# Altium footprint library WR-TBL_Rising Cage Clamp_5.00mm.PcbLib: 76 footprints (part 5 of 5)
Each footprint in its own frame and in the unit in brackets; x right, y up, seen from the top. Pads: shape width x height; smd on the part's side, far side on the other; paste and mask are expansions set on the pad; w line width, h text height; cw(c..) or ccw(c..) is an arc to the next point about the centre after c.
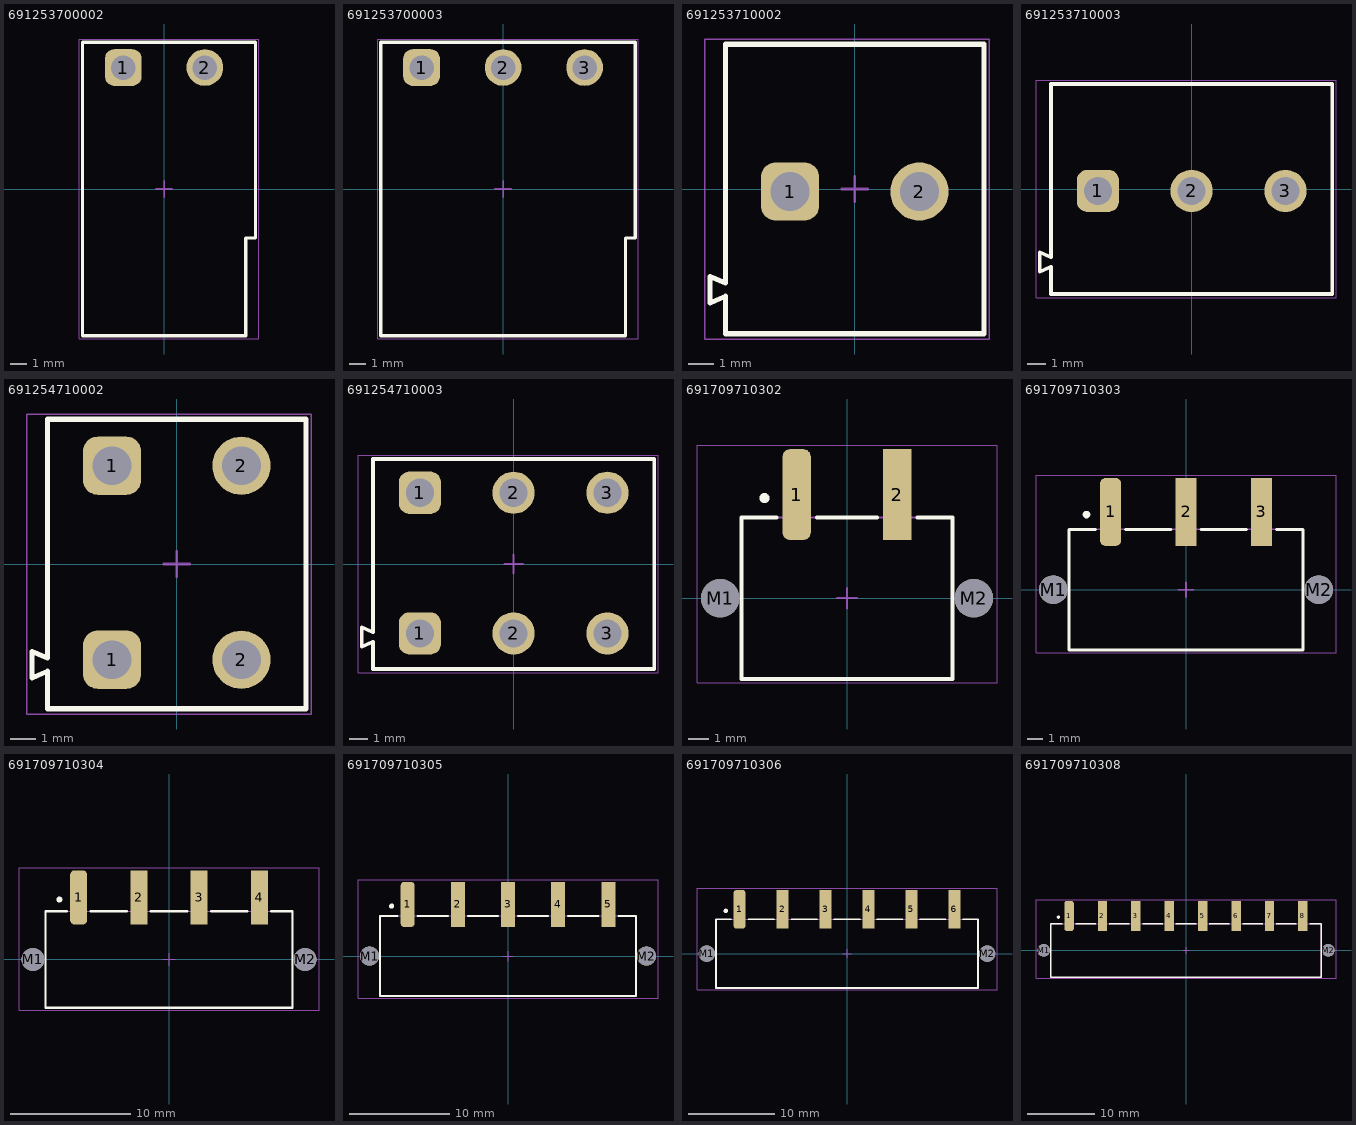
[diagram p4: the footprints below, top view; thin cyan lines are the x and y axes]

## 691253700002 [mm] "Serie 2537 - 5.00 mm _ 2 pins"
height 18
pads (2):
  rrect50% 2.25x2.25 hole 1.5: 1(-2.5,7.45)
  round 2.25 hole 1.5: 2(2.5,7.45)
Top Overlay:
  lines w0.2: -5,-9 -5,9 5.6,9 5.6,-3 5,-3 5,-9 -5,-9
Top Assembly:
  lines w0.1: -5,-9 5,-9 5,-3 5.6,-3 5.6,9 -5,9 -5,-9
Top Designator:
  text ".Designator" at -3.647,-0.357 h1
Top 3D Body:
  lines w0.1: -5,-9 -5,9 5.6,9 5.6,-3 5,-3 5,-9 -5,-9
Top Courtyard:
  lines w0.05: -5.2,-9.2 -5.2,9.2 5.8,9.2 5.8,-9.2 -5.2,-9.2
Top Component Center:
  lines w0.1: -0.5,0 0.5,0 ; 0,-0.5 0,0.5
3D body "691253700002.stp": height 11.3, standoff -3.9, extent -5,-9 5.6,9

## 691253700003 [mm] "Serie 2537 - 5.00 mm _ 3 pins"
height 18
pads (3):
  rrect50% 2.25x2.25 hole 1.5: 1(-5,7.45)
  round 2.25 hole 1.5: 2(0,7.45) 3(5,7.45)
Top Overlay:
  lines w0.2: -7.5,-9 -7.5,9 8.1,9 8.1,-3 7.5,-3 7.5,-9 -7.5,-9
Top Assembly:
  lines w0.1: -7.5,-9 7.5,-9 7.5,-3 8.1,-3 8.1,9 -7.5,9 -7.5,-9
Top Designator:
  text ".Designator" at -3.647,-0.357 h1
Top 3D Body:
  lines w0.1: -7.5,-9 -7.5,9 8.1,9 8.1,-3 7.5,-3 7.5,-9 -7.5,-9
Top Courtyard:
  lines w0.05: -7.7,-9.2 -7.7,9.2 8.3,9.2 8.3,-9.2 -7.7,-9.2
Top Component Center:
  lines w0.1: -0.5,0 0.5,0 ; 0,-0.5 0,0.5
3D body "691253700003.stp": height 11.3, standoff -3.9, extent -7.5,-9 8.1,9

## 691253710002 [mm] "Serie 2537 - 5.00 mm _ 2 pins"
height 18
pads (2):
  rrect50% 2.25x2.25 hole 1.5: 1(-2.5,-0.1)
  round 2.25 hole 1.5: 2(2.5,-0.1)
Top Overlay:
  lines w0.2: -5.6,-4.41 -5,-4.15 -5,-5.6 5,-5.6 5,5.6 -5,5.6 -5,-3.64 -5.6,-3.38 -5.6,-4.41
Top Assembly:
  lines w0.1: -5.6,-4.41 -5.6,-3.38 -5,-3.64 -5,5.6 5,5.6 5,-5.6 -5,-5.6 -5,-4.15 -5.6,-4.41
Top Designator:
  text ".Designator" at -3.647,-0.357 h1
Top 3D Body:
  lines w0.1: -5.6,-4.41 -5,-4.15 -5,-5.6 5,-5.6 5,5.6 -5,5.6 -5,-3.64 -5.6,-3.38 -5.6,-4.41
Top Courtyard:
  lines w0.05: -5.8,-5.8 -5.8,5.8 5.2,5.8 5.2,-5.8 -5.8,-5.8
Top Component Center:
  lines w0.1: -0.5,0 0.5,0 ; 0,-0.5 0,0.5
3D body "691253710002.stp": height 18.1, standoff -3.9, extent -5.6,-5.6 5,5.6

## 691253710003 [mm] "Serie 2537 - 5.00 mm _ 3 pins"
height 18
pads (3):
  rrect50% 2.25x2.25 hole 1.5: 1(-5,-0.1)
  round 2.25 hole 1.5: 2(0,-0.1) 3(5,-0.1)
Top Overlay:
  lines w0.2: -8.1,-4.41 -8.1,-3.38 -7.5,-3.64 -7.5,5.6 7.5,5.6 7.5,-5.6 -7.5,-5.6 -7.5,-4.15 -8.1,-4.41
Top Assembly:
  lines w0.1: -8.1,-4.41 -7.5,-4.15 -7.5,-5.6 7.5,-5.6 7.5,5.6 -7.5,5.6 -7.5,-3.64 -8.1,-3.38 -8.1,-4.41
Top Designator:
  text ".Designator" at -3.647,-0.357 h1
Top 3D Body:
  lines w0.1: -8.1,-4.41 -8.1,-3.38 -7.5,-3.64 -7.5,5.6 7.5,5.6 7.5,-5.6 -7.5,-5.6 -7.5,-4.15 -8.1,-4.41
Top Courtyard:
  lines w0.05: -8.3,-5.8 7.7,-5.8 7.7,5.8 -8.3,5.8 -8.3,-5.8
Top Component Center:
  lines w0.1: -0.5,0 0.5,0 ; 0,-0.5 0,0.5
3D body "691253710003.stp": height 18.1, standoff -3.9, extent -8.1,-5.6 7.5,5.6

## 691254710002 [mm] "Serie 2547-5.00mm Horizontal Cable Entry with Rising Cage Clamp, 2 pins"
height 18
pads (4):
  rrect50% 2.25x2.25 hole 1.5: 1(-2.5,-3.7) 1(-2.5,3.8)
  round 2.25 hole 1.5: 2(2.5,-3.7) 2(2.5,3.8)
Top Overlay:
  lines w0.2: -5.6,-4.41 -5.6,-3.38 -5,-3.64 -5,5.6 5,5.6 5,-5.6 -5,-5.6 -5,-4.15 -5.6,-4.41
Top Assembly:
  lines w0.1: -5.6,-4.41 -5,-4.15 -5,-5.6 5,-5.6 5,5.6 -5,5.6 -5,-3.64 -5.6,-3.38 -5.6,-4.41
Top Designator:
  text ".Designator" at -3.647,-0.357 h1
Top 3D Body:
  lines w0.1: -5.6,-4.41 -5.6,-3.38 -5,-3.64 -5,5.6 5,5.6 5,-5.6 -5,-5.6 -5,-4.15 -5.6,-4.41
Top Courtyard:
  lines w0.05: -5.8,-5.8 5.2,-5.8 5.2,5.8 -5.8,5.8 -5.8,-5.8
Top Component Center:
  lines w0.1: -0.5,0 0.5,0 ; 0,-0.5 0,0.5
3D body "691254710002.stp": height 18.05, standoff -3.45, extent -5.6,-5.6 5,5.6

## 691254710003 [mm] "Serie 2547-5.00mm Horizontal Cable Entry with Rising Cage Clamp, 3 pins"
height 18
pads (6):
  rrect50% 2.25x2.25 hole 1.5: 1(-5,-3.7) 1(-5,3.8)
  round 2.25 hole 1.5: 2(0,-3.7) 2(0,3.8) 3(5,-3.7) 3(5,3.8)
Top Overlay:
  lines w0.2: -8.1,-4.41 -8.1,-3.38 -7.5,-3.64 -7.5,5.6 7.5,5.6 7.5,-5.6 -7.5,-5.6 -7.5,-4.15 -8.1,-4.41
Top Assembly:
  lines w0.1: -8.1,-4.41 -7.5,-4.15 -7.5,-5.6 7.5,-5.6 7.5,5.6 -7.5,5.6 -7.5,-3.64 -8.1,-3.38 -8.1,-4.41
Top Designator:
  text ".Designator" at -3.647,-0.357 h1
Top 3D Body:
  lines w0.1: -8.1,-4.41 -8.1,-3.38 -7.5,-3.64 -7.5,5.6 7.5,5.6 7.5,-5.6 -7.5,-5.6 -7.5,-4.15 -8.1,-4.41
Top Courtyard:
  lines w0.05: -8.3,-5.8 7.7,-5.8 7.7,5.8 -8.3,5.8 -8.3,-5.8
Top Component Center:
  lines w0.1: -0.5,0 0.5,0 ; 0,-0.5 0,0.5
3D body "691254710003.stp": height 18.05, standoff -3.45, extent -8.1,-5.6 7.5,5.6

## 691709710302 [mm] "Horizontal Entry SMT with Pressure Clamp, pitch 5mm, 02p"
height 10.9
pads (4):
  rrect50% 1.4x4.5 smd: 1(-2.5,5.15)
  rect 1.4x4.5 smd: 2(2.5,5.15)
  round 1.9 hole 1.9 unplated: M1(-6.3,0) M2(6.3,0)
Top Overlay:
  circle w0.25: c-4.1,4.975 r0.125
  lines w0.2: -3.5,4 -5.25,4 -5.25,-4 5.25,-4 5.25,4 3.5,4 ; -1.5,4 1.5,4
Top Assembly:
  lines w0.1: -3,4 -3,7 -2,7 -2,4 ; 2,4 2,7 3,7 3,4 ; -5.25,-4 -5.25,4 5.25,4 5.25,-4 -5.25,-4
Top Designator:
  text ".Designator" at -3.647,-0.357 h1
Top 3D Body:
  lines w0.1: -3,4 -3,7 -2,7 -2,4 ; 2,4 2,7 3,7 3,4 ; -5.25,-4 5.25,-4 5.25,4 -5.25,4 -5.25,-4
Top Courtyard:
  lines w0.05: -7.45,-4.2 -7.45,7.6 7.45,7.6 7.45,-4.2 -7.45,-4.2
Top Component Center:
  lines w0.1: -0.5,0 0.5,0 ; 0,-0.5 0,0.5
3D body "691709710302.stp": height 9.95, standoff -1.75, extent -7,-4 7,7

## 691709710303 [mm] "Horizontal Entry SMT with Pressure Clamp, pitch 5mm, 03p"
height 10.9
pads (5):
  rrect50% 1.4x4.5 smd: 1(-5,5.15)
  rect 1.4x4.5 smd: 2(0,5.15) 3(5,5.15)
  round 1.9 hole 1.9 unplated: M1(-8.8,0) M2(8.8,0)
Top Overlay:
  circle w0.25: c-6.6,4.975 r0.125
  lines w0.2: -6,4 -7.75,4 -7.75,-4 7.75,-4 7.75,4 6,4 ; -4,4 -1,4 ; 1,4 4,4
Top Assembly:
  lines w0.1: -5.5,4 -5.5,7 -4.5,7 -4.5,4 ; -0.5,4 -0.5,7 0.5,7 0.5,4 ; 4.5,4 4.5,7 5.5,7 5.5,4 ; -7.75,-4 7.75,-4 7.75,4 -7.75,4 -7.75,-4
Top Designator:
  text ".Designator" at -3.647,-0.357 h1
Top 3D Body:
  lines w0.1: -5.5,4 -5.5,7 -4.5,7 -4.5,4 ; -0.5,4 -0.5,7 0.5,7 0.5,4 ; 4.5,4 4.5,7 5.5,7 5.5,4 ; -7.75,-4 -7.75,4 7.75,4 7.75,-4 -7.75,-4
Top Courtyard:
  lines w0.05: -9.95,-4.2 9.95,-4.2 9.95,7.6 -9.95,7.6 -9.95,-4.2
Top Component Center:
  lines w0.1: -0.5,0 0.5,0 ; 0,-0.5 0,0.5
3D body "691709710303.stp": height 9.95, standoff -1.75, extent -9.5,-4 9.5,7

## 691709710304 [mm] "Horizontal Entry SMT with Pressure Clamp, pitch 5mm, 04p"
height 10.9
pads (6):
  rrect50% 1.4x4.5 smd: 1(-7.5,5.15)
  rect 1.4x4.5 smd: 2(-2.5,5.15) 3(2.5,5.15) 4(7.5,5.15)
  round 1.9 hole 1.9 unplated: M1(-11.3,0) M2(11.3,0)
Top Overlay:
  circle w0.25: c-9.1,4.975 r0.125
  lines w0.2: -8.5,4 -10.25,4 -10.25,-4 10.25,-4 10.25,4 8.5,4 ; -6.5,4 -3.5,4 ; -1.5,4 1.5,4 ; 3.5,4 6.5,4
Top Assembly:
  lines w0.1: -8,4 -8,7 -7,7 -7,4 ; -3,4 -3,7 -2,7 -2,4 ; 2,4 2,7 3,7 3,4 ; 7,4 7,7 8,7 8,4 ; -10.25,-4 -10.25,4 10.25,4 10.25,-4 -10.25,-4
Top Designator:
  text ".Designator" at -3.647,-0.357 h1
Top 3D Body:
  lines w0.1: -8,4 -8,7 -7,7 -7,4 ; -3,4 -3,7 -2,7 -2,4 ; 2,4 2,7 3,7 3,4 ; 7,4 7,7 8,7 8,4 ; -10.25,-4 10.25,-4 10.25,4 -10.25,4 -10.25,-4
Top Courtyard:
  lines w0.05: -12.45,-4.2 -12.45,7.6 12.45,7.6 12.45,-4.2 -12.45,-4.2
Top Component Center:
  lines w0.1: -0.5,0 0.5,0 ; 0,-0.5 0,0.5
3D body "691709710304.stp": height 9.95, standoff -1.75, extent -12,-4 12,7

## 691709710305 [mm] "Horizontal Entry SMT with Pressure Clamp, pitch 5mm, 05p"
height 10.9
pads (7):
  rrect50% 1.4x4.5 smd: 1(-10,5.15)
  rect 1.4x4.5 smd: 2(-5,5.15) 3(0,5.15) 4(5,5.15) 5(10,5.15)
  round 1.9 hole 1.9 unplated: M1(-13.8,0) M2(13.8,0)
Top Overlay:
  circle w0.25: c-11.6,4.975 r0.125
  lines w0.2: -11,4 -12.75,4 -12.75,-4 12.75,-4 12.75,4 11,4 ; -9,4 -6,4 ; -4,4 -1,4 ; 1,4 4,4 ; 6,4 9,4
Top Assembly:
  lines w0.1: -10.5,4 -10.5,7 -9.5,7 -9.5,4 ; -5.5,4 -5.5,7 -4.5,7 -4.5,4 ; -0.5,4 -0.5,7 0.5,7 0.5,4 ; 4.5,4 4.5,7 5.5,7 5.5,4 ; 9.5,4 9.5,7 10.5,7 10.5,4 ; -12.75,-4 12.75,-4 12.75,4 -12.75,4 -12.75,-4
Top Designator:
  text ".Designator" at -3.647,-0.357 h1
Top 3D Body:
  lines w0.1: -10.5,4 -10.5,7 -9.5,7 -9.5,4 ; -5.5,4 -5.5,7 -4.5,7 -4.5,4 ; -0.5,4 -0.5,7 0.5,7 0.5,4 ; 4.5,4 4.5,7 5.5,7 5.5,4 ; 9.5,4 9.5,7 10.5,7 10.5,4 ; -12.75,-4 -12.75,4 12.75,4 12.75,-4 -12.75,-4
Top Courtyard:
  lines w0.05: -14.95,-4.2 14.95,-4.2 14.95,7.6 -14.95,7.6 -14.95,-4.2
Top Component Center:
  lines w0.1: -0.5,0 0.5,0 ; 0,-0.5 0,0.5
3D body "691709710305.stp": height 9.95, standoff -1.75, extent -14.5,-4 14.5,7

## 691709710306 [mm] "Horizontal Entry SMT with Pressure Clamp, pitch 5mm, 06p"
height 10.9
pads (8):
  rrect50% 1.4x4.5 smd: 1(-12.5,5.15)
  rect 1.4x4.5 smd: 2(-7.5,5.15) 3(-2.5,5.15) 4(2.5,5.15) 5(7.5,5.15) 6(12.5,5.15)
  round 1.9 hole 1.9 unplated: M1(-16.3,0) M2(16.3,0)
Top Overlay:
  circle w0.25: c-14.1,4.975 r0.125
  lines w0.2: -13.5,4 -15.25,4 -15.25,-4 15.25,-4 15.25,4 13.5,4 ; -11.5,4 -8.5,4 ; -6.5,4 -3.5,4 ; -1.5,4 1.5,4 ; 3.5,4 6.5,4 ; 8.5,4 11.5,4
Top Assembly:
  lines w0.1: -13,4 -13,7 -12,7 -12,4 ; -8,4 -8,7 -7,7 -7,4 ; -3,4 -3,7 -2,7 -2,4 ; 2,4 2,7 3,7 3,4 ; 7,4 7,7 8,7 8,4 ; 12,4 12,7 13,7 13,4 ; -15.25,-4 -15.25,4 15.25,4 15.25,-4 -15.25,-4
Top Designator:
  text ".Designator" at -3.647,-0.357 h1
Top 3D Body:
  lines w0.1: -13,4 -13,7 -12,7 -12,4 ; -8,4 -8,7 -7,7 -7,4 ; -3,4 -3,7 -2,7 -2,4 ; 2,4 2,7 3,7 3,4 ; 7,4 7,7 8,7 8,4 ; 12,4 12,7 13,7 13,4 ; -15.25,-4 15.25,-4 15.25,4 -15.25,4 -15.25,-4
Top Courtyard:
  lines w0.05: -17.45,-4.2 -17.45,7.6 17.45,7.6 17.45,-4.2 -17.45,-4.2
Top Component Center:
  lines w0.1: -0.5,0 0.5,0 ; 0,-0.5 0,0.5
3D body "691709710306.stp": height 9.95, standoff -1.75, extent -17,-4 17,7

## 691709710308 [mm] "Horizontal Entry SMT with Pressure Clamp, pitch 5mm, 08p"
height 10.9
pads (10):
  rrect50% 1.4x4.5 smd: 1(-17.5,5.15)
  rect 1.4x4.5 smd: 2(-12.5,5.15) 3(-7.5,5.15) 4(-2.5,5.15) 5(2.5,5.15) 6(7.5,5.15) 7(12.5,5.15) 8(17.5,5.15)
  round 1.9 hole 1.9 unplated: M1(-21.3,0) M2(21.3,0)
Top Overlay:
  circle w0.25: c-19.1,4.975 r0.125
  lines w0.2: -18.5,4 -20.25,4 -20.25,-4 20.25,-4 20.25,4 18.5,4 ; -16.5,4 -13.5,4 ; -11.5,4 -8.5,4 ; -6.5,4 -3.5,4 ; -1.5,4 1.5,4 ; 3.5,4 6.5,4 ; 8.5,4 11.5,4 ; 13.5,4 16.5,4
Top Assembly:
  lines w0.1: -18,4 -18,7 -17,7 -17,4 ; -13,4 -13,7 -12,7 -12,4 ; -8,4 -8,7 -7,7 -7,4 ; -3,4 -3,7 -2,7 -2,4 ; 2,4 2,7 3,7 3,4 ; 7,4 7,7 8,7 8,4 ; 12,4 12,7 13,7 13,4 ; 17,4 17,7 18,7 18,4 ; -20.25,-4 20.25,-4 20.25,4 -20.25,4 -20.25,-4
Top Designator:
  text ".Designator" at -3.647,-0.357 h1
Top 3D Body:
  lines w0.1: -18,4 -18,7 -17,7 -17,4 ; -13,4 -13,7 -12,7 -12,4 ; -8,4 -8,7 -7,7 -7,4 ; -3,4 -3,7 -2,7 -2,4 ; 2,4 2,7 3,7 3,4 ; 7,4 7,7 8,7 8,4 ; 12,4 12,7 13,7 13,4 ; 17,4 17,7 18,7 18,4 ; -20.25,-4 -20.25,4 20.25,4 20.25,-4 -20.25,-4
Top Courtyard:
  lines w0.05: -22.45,-4.2 22.45,-4.2 22.45,7.6 -22.45,7.6 -22.45,-4.2
Top Component Center:
  lines w0.1: -0.5,0 0.5,0 ; 0,-0.5 0,0.5
3D body "691709710308.stp": height 9.95, standoff -1.75, extent -22,-4 22,7